# EAGLE library part BTHQ128064_LOG (library lcd_displays)
COG Display, Logic part and connector (Samtec ZF5)
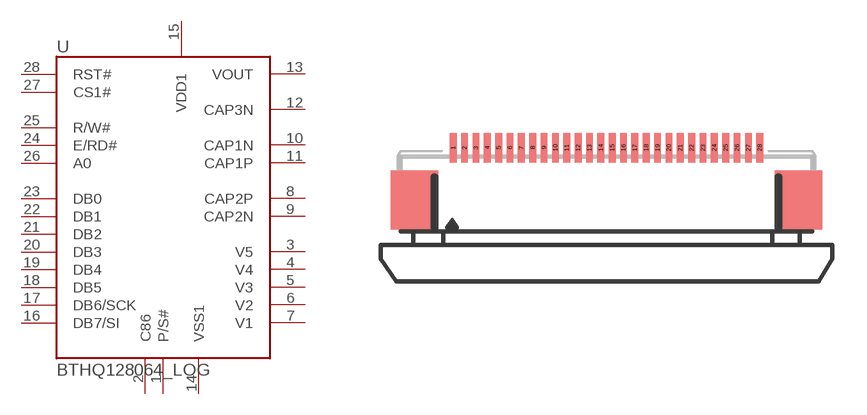
[diagram p5: symbol with the pads of SAMTEC-ZF5-28; footprint SAMTEC-ZF5-28]

Designator prefix -

## BTHQ128064_LOG  [SAMTEC-ZF5-28]
1  P/S#  in
2  C86  in
3  V5  pwr
4  V4  pwr
5  V3  pwr
6  V2  pwr
7  V1  pwr
8  CAP2P
9  CAP2N
10  CAP1N
11  CAP1P
12  CAP3N
13  VOUT  pwr
14  VSS1  pwr
15  VDD1  pwr
16  DB7/SI
17  DB6/SCK
18  DB5
19  DB4
20  DB3
21  DB2
22  DB1
23  DB0
24  E/RD#
25  R/W#
26  A0
27  CS1#
28  RST#

## Footprint SAMTEC-ZF5-28 (pad centres in mm)
FFC/FPC-to-Board 0.50mm (.020") SMT Top Contact Right Angle, ZIF, Samtec ZF5 Source: http://www.samtec.com
smd 0.3 x 1.3: 1 -6.75,2.3; 2 -6.25,2.3; 3 -5.75,2.3; 4 -5.25,2.3; 5 -4.75,2.3; 6 -4.25,2.3; 7 -3.75,2.3; 8 -3.25,2.3; 9 -2.75,2.3; 10 -2.25,2.3; 11 -1.75,2.3; 12 -1.25,2.3; 13 -0.75,2.3; 14 -0.25,2.3; 15 0.25,2.3; 16 0.75,2.3; 17 1.25,2.3; 18 1.75,2.3; 19 2.25,2.3; 20 2.75,2.3; 21 3.25,2.3; 22 3.75,2.3; 23 4.25,2.3; 24 4.75,2.3; 25 5.25,2.3; 26 5.75,2.3; 27 6.25,2.3; 28 6.75,2.3